# Altium schematic symbol library WE-KI.SchLib: 314 symbols (part 4 of 6)
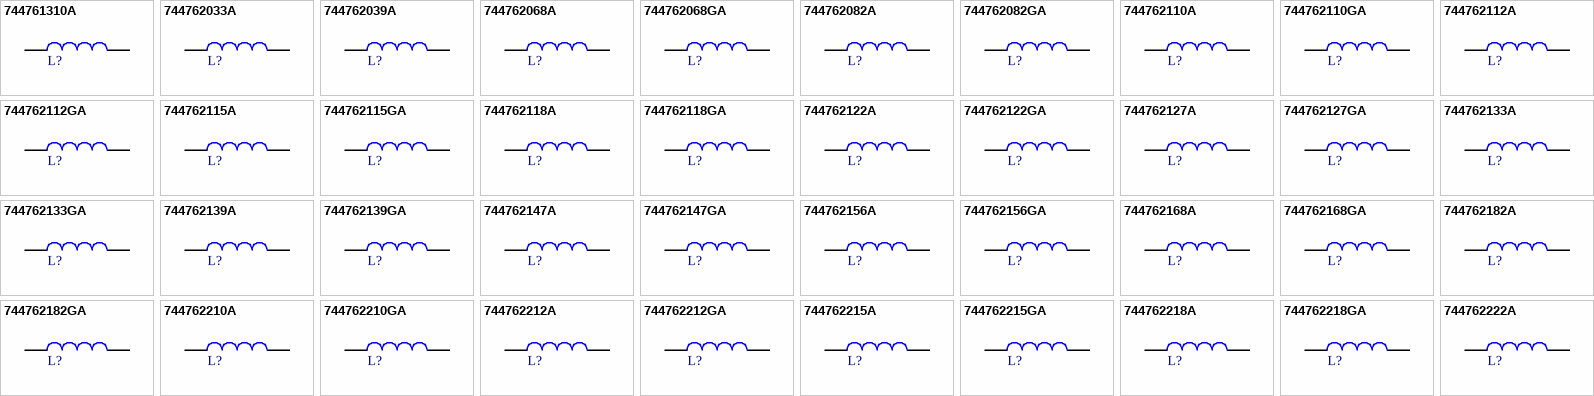
[diagram p10: symbols 744761310A to 744762222A]

## 744762110GA
designator L?, comment 10nH  (value not drawn)
WE-KI SMT Wire Wound Ceramic Inductor, size 1008, 10nH, 1A, 0.08Ω; Manufacturer Part Number: 744762110GA; Manufacturer: Wurth Elektronik; Case/Size Code: 1008; Inductance Tolerance: +/-2%; Q Factor: 50; Self Resonant Frequency: 4300MHz; Category: RF Inductors; Match Code: WE-KI; ComponentLink1Description: Website Link; ComponentLink1URL: https://www.we-online.com/redexpert/article/744762110GA?ad; ComponentLink2Description: Datasheet Link; ComponentLink2URL: https://www.we-online.com/redexpert/spec/744762110GA?ad; Mount: Surface Mount; Operating Temperature Max: 125°C; Operating Temperature Min: -40°C; Packaging: Tape and Reel; Length: 2.5mm; Width: 2mm; Height: 1.6mm; DC Resistance Max: 0.08Ω; Inductance: 10nH; Rated Current: 1A
footprint WE-KI_1008
simulation model 1008_744762110GA_10n
pins: 1, 2

## 744762112A
designator L?, comment 12nH  (value not drawn)
WE-KI SMT Wire Wound Ceramic Inductor, size 1008, 12nH, 1A, 0.08Ω; Manufacturer Part Number: 744762112A; Manufacturer: Wurth Elektronik; Case/Size Code: 1008; Inductance Tolerance: +/-5%; Q Factor: 60; Self Resonant Frequency: 3600MHz; Category: RF Inductors; Match Code: WE-KI; ComponentLink1Description: Website Link; ComponentLink1URL: https://www.we-online.com/redexpert/article/744762112A?ad; ComponentLink2Description: Datasheet Link; ComponentLink2URL: https://www.we-online.com/redexpert/spec/744762112A?ad; Mount: Surface Mount; Operating Temperature Max: 125°C; Operating Temperature Min: -40°C; Packaging: Tape and Reel; Length: 2.5mm; Width: 2mm; Height: 1.6mm; DC Resistance Max: 0.08Ω; Inductance: 12nH; Rated Current: 1A
footprint WE-KI_1008
simulation model 1008_744762112A_12n
pins: 1, 2

## 744762112GA
designator L?, comment 12nH  (value not drawn)
WE-KI SMT Wire Wound Ceramic Inductor, size 1008, 12nH, 1A, 0.08Ω; Manufacturer Part Number: 744762112GA; Manufacturer: Wurth Elektronik; Case/Size Code: 1008; Inductance Tolerance: +/-2%; Q Factor: 60; Self Resonant Frequency: 3600MHz; Category: RF Inductors; Match Code: WE-KI; ComponentLink1Description: Website Link; ComponentLink1URL: https://www.we-online.com/redexpert/article/744762112GA?ad; ComponentLink2Description: Datasheet Link; ComponentLink2URL: https://www.we-online.com/redexpert/spec/744762112GA?ad; Mount: Surface Mount; Operating Temperature Max: 125°C; Operating Temperature Min: -40°C; Packaging: Tape and Reel; Length: 2.5mm; Width: 2mm; Height: 1.6mm; DC Resistance Max: 0.08Ω; Inductance: 12nH; Rated Current: 1A
footprint WE-KI_1008
simulation model 1008_744762112GA_12n
pins: 1, 2

## 744762115A
designator L?, comment 15nH  (value not drawn)
WE-KI SMT Wire Wound Ceramic Inductor, size 1008, 15nH, 1A, 0.08Ω; Manufacturer Part Number: 744762115A; Manufacturer: Wurth Elektronik; Case/Size Code: 1008; Inductance Tolerance: +/-5%; Q Factor: 60; Self Resonant Frequency: 2700MHz; Category: RF Inductors; Match Code: WE-KI; ComponentLink1Description: Website Link; ComponentLink1URL: https://www.we-online.com/redexpert/article/744762115A?ad; ComponentLink2Description: Datasheet Link; ComponentLink2URL: https://www.we-online.com/redexpert/spec/744762115A?ad; Mount: Surface Mount; Operating Temperature Max: 125°C; Operating Temperature Min: -40°C; Packaging: Tape and Reel; Length: 2.5mm; Width: 2mm; Height: 1.6mm; DC Resistance Max: 0.08Ω; Inductance: 15nH; Rated Current: 1A
footprint WE-KI_1008
simulation model 1008_744762115A_15n
pins: 1, 2

## 744762115GA
designator L?, comment 15nH  (value not drawn)
WE-KI SMT Wire Wound Ceramic Inductor, size 1008, 15nH, 1A, 0.08Ω; Manufacturer Part Number: 744762115GA; Manufacturer: Wurth Elektronik; Case/Size Code: 1008; Inductance Tolerance: +/-2%; Q Factor: 60; Self Resonant Frequency: 2700MHz; Category: RF Inductors; Match Code: WE-KI; ComponentLink1Description: Website Link; ComponentLink1URL: https://www.we-online.com/redexpert/article/744762115GA?ad; ComponentLink2Description: Datasheet Link; ComponentLink2URL: https://www.we-online.com/redexpert/spec/744762115GA?ad; Mount: Surface Mount; Operating Temperature Max: 125°C; Operating Temperature Min: -40°C; Packaging: Tape and Reel; Length: 2.5mm; Width: 2mm; Height: 1.6mm; DC Resistance Max: 0.08Ω; Inductance: 15nH; Rated Current: 1A
footprint WE-KI_1008
simulation model 1008_744762115GA_15n
pins: 1, 2

## 744762118A
designator L?, comment 18nH  (value not drawn)
WE-KI SMT Wire Wound Ceramic Inductor, size 1008, 18nH, 1A, 0.1Ω; Manufacturer Part Number: 744762118A; Manufacturer: Wurth Elektronik; Case/Size Code: 1008; Inductance Tolerance: +/-5%; Q Factor: 60; Self Resonant Frequency: 2700MHz; Category: RF Inductors; Match Code: WE-KI; ComponentLink1Description: Website Link; ComponentLink1URL: https://www.we-online.com/redexpert/article/744762118A?ad; ComponentLink2Description: Datasheet Link; ComponentLink2URL: https://www.we-online.com/redexpert/spec/744762118A?ad; Mount: Surface Mount; Operating Temperature Max: 125°C; Operating Temperature Min: -40°C; Packaging: Tape and Reel; Length: 2.5mm; Width: 2mm; Height: 1.6mm; DC Resistance Max: 0.1Ω; Inductance: 18nH; Rated Current: 1A
footprint WE-KI_1008
simulation model 1008_744762118A_18n
pins: 1, 2

## 744762118GA
designator L?, comment 18nH  (value not drawn)
WE-KI SMT Wire Wound Ceramic Inductor, size 1008, 18nH, 1A, 0.1Ω; Manufacturer Part Number: 744762118GA; Manufacturer: Wurth Elektronik; Case/Size Code: 1008; Inductance Tolerance: +/-2%; Q Factor: 60; Self Resonant Frequency: 2700MHz; Category: RF Inductors; Match Code: WE-KI; ComponentLink1Description: Website Link; ComponentLink1URL: https://www.we-online.com/redexpert/article/744762118GA?ad; ComponentLink2Description: Datasheet Link; ComponentLink2URL: https://www.we-online.com/redexpert/spec/744762118GA?ad; Mount: Surface Mount; Operating Temperature Max: 125°C; Operating Temperature Min: -40°C; Packaging: Tape and Reel; Length: 2.5mm; Width: 2mm; Height: 1.6mm; DC Resistance Max: 0.1Ω; Inductance: 18nH; Rated Current: 1A
footprint WE-KI_1008
simulation model 1008_744762118GA_18n
pins: 1, 2

## 744762122A
designator L?, comment 22nH  (value not drawn)
WE-KI SMT Wire Wound Ceramic Inductor, size 1008, 22nH, 1A, 0.1Ω; Manufacturer Part Number: 744762122A; Manufacturer: Wurth Elektronik; Case/Size Code: 1008; Inductance Tolerance: +/-5%; Q Factor: 60; Self Resonant Frequency: 2500MHz; Category: RF Inductors; Match Code: WE-KI; ComponentLink1Description: Website Link; ComponentLink1URL: https://www.we-online.com/redexpert/article/744762122A?ad; ComponentLink2Description: Datasheet Link; ComponentLink2URL: https://www.we-online.com/redexpert/spec/744762122A?ad; Mount: Surface Mount; Operating Temperature Max: 125°C; Operating Temperature Min: -40°C; Packaging: Tape and Reel; Length: 2.5mm; Width: 2mm; Height: 1.6mm; DC Resistance Max: 0.1Ω; Inductance: 22nH; Rated Current: 1A
footprint WE-KI_1008
simulation model 1008_744762122A_22n
pins: 1, 2

## 744762122GA
designator L?, comment 22nH  (value not drawn)
WE-KI SMT Wire Wound Ceramic Inductor, size 1008, 22nH, 1A, 0.1Ω; Manufacturer Part Number: 744762122GA; Manufacturer: Wurth Elektronik; Case/Size Code: 1008; Inductance Tolerance: +/-2%; Q Factor: 60; Self Resonant Frequency: 2500MHz; Category: RF Inductors; Match Code: WE-KI; ComponentLink1Description: Website Link; ComponentLink1URL: https://www.we-online.com/redexpert/article/744762122GA?ad; ComponentLink2Description: Datasheet Link; ComponentLink2URL: https://www.we-online.com/redexpert/spec/744762122GA?ad; Mount: Surface Mount; Operating Temperature Max: 125°C; Operating Temperature Min: -40°C; Packaging: Tape and Reel; Length: 2.5mm; Width: 2mm; Height: 1.6mm; DC Resistance Max: 0.1Ω; Inductance: 22nH; Rated Current: 1A
footprint WE-KI_1008
simulation model 1008_744762122GA_22n
pins: 1, 2

## 744762127A
designator L?, comment 27nH  (value not drawn)
WE-KI SMT Wire Wound Ceramic Inductor, size 1008, 27nH, 1A, 0.1Ω; Manufacturer Part Number: 744762127A; Manufacturer: Wurth Elektronik; Case/Size Code: 1008; Inductance Tolerance: +/-5%; Q Factor: 60; Self Resonant Frequency: 1800MHz; Category: RF Inductors; Match Code: WE-KI; ComponentLink1Description: Website Link; ComponentLink1URL: https://www.we-online.com/redexpert/article/744762127A?ad; ComponentLink2Description: Datasheet Link; ComponentLink2URL: https://www.we-online.com/redexpert/spec/744762127A?ad; Mount: Surface Mount; Operating Temperature Max: 125°C; Operating Temperature Min: -40°C; Packaging: Tape and Reel; Length: 2.5mm; Width: 2mm; Height: 1.6mm; DC Resistance Max: 0.1Ω; Inductance: 27nH; Rated Current: 1A
footprint WE-KI_1008
simulation model 1008_744762127A_27n
pins: 1, 2

## 744762127GA
designator L?, comment 27nH  (value not drawn)
WE-KI SMT Wire Wound Ceramic Inductor, size 1008, 27nH, 1A, 0.1Ω; Manufacturer Part Number: 744762127GA; Manufacturer: Wurth Elektronik; Case/Size Code: 1008; Inductance Tolerance: +/-2%; Q Factor: 60; Self Resonant Frequency: 1800MHz; Category: RF Inductors; Match Code: WE-KI; ComponentLink1Description: Website Link; ComponentLink1URL: https://www.we-online.com/redexpert/article/744762127GA?ad; ComponentLink2Description: Datasheet Link; ComponentLink2URL: https://www.we-online.com/redexpert/spec/744762127GA?ad; Mount: Surface Mount; Operating Temperature Max: 125°C; Operating Temperature Min: -40°C; Packaging: Tape and Reel; Length: 2.5mm; Width: 2mm; Height: 1.6mm; DC Resistance Max: 0.1Ω; Inductance: 27nH; Rated Current: 1A
footprint WE-KI_1008
simulation model 1008_744762127GA_27n
pins: 1, 2

## 744762133A
designator L?, comment 33nH  (value not drawn)
WE-KI SMT Wire Wound Ceramic Inductor, size 1008, 33nH, 1A, 0.1Ω; Manufacturer Part Number: 744762133A; Manufacturer: Wurth Elektronik; Case/Size Code: 1008; Inductance Tolerance: +/-5%; Q Factor: 60; Self Resonant Frequency: 1700MHz; Category: RF Inductors; Match Code: WE-KI; ComponentLink1Description: Website Link; ComponentLink1URL: https://www.we-online.com/redexpert/article/744762133A?ad; ComponentLink2Description: Datasheet Link; ComponentLink2URL: https://www.we-online.com/redexpert/spec/744762133A?ad; Mount: Surface Mount; Operating Temperature Max: 125°C; Operating Temperature Min: -40°C; Packaging: Tape and Reel; Length: 2.5mm; Width: 2mm; Height: 1.6mm; DC Resistance Max: 0.1Ω; Inductance: 33nH; Rated Current: 1A
footprint WE-KI_1008
simulation model 1008_744762133A_33n
pins: 1, 2

## 744762133GA
designator L?, comment 33nH  (value not drawn)
WE-KI SMT Wire Wound Ceramic Inductor, size 1008, 33nH, 1A, 0.1Ω; Manufacturer Part Number: 744762133GA; Manufacturer: Wurth Elektronik; Case/Size Code: 1008; Inductance Tolerance: +/-2%; Q Factor: 60; Self Resonant Frequency: 1700MHz; Category: RF Inductors; Match Code: WE-KI; ComponentLink1Description: Website Link; ComponentLink1URL: https://www.we-online.com/redexpert/article/744762133GA?ad; ComponentLink2Description: Datasheet Link; ComponentLink2URL: https://www.we-online.com/redexpert/spec/744762133GA?ad; Mount: Surface Mount; Operating Temperature Max: 125°C; Operating Temperature Min: -40°C; Packaging: Tape and Reel; Length: 2.5mm; Width: 2mm; Height: 1.6mm; DC Resistance Max: 0.1Ω; Inductance: 33nH; Rated Current: 1A
footprint WE-KI_1008
simulation model 1008_744762133GA_33n
pins: 1, 2

## 744762139A
designator L?, comment 39nH  (value not drawn)
WE-KI SMT Wire Wound Ceramic Inductor, size 1008, 39nH, 1A, 0.1Ω; Manufacturer Part Number: 744762139A; Manufacturer: Wurth Elektronik; Case/Size Code: 1008; Inductance Tolerance: +/-5%; Q Factor: 60; Self Resonant Frequency: 1500MHz; Category: RF Inductors; Match Code: WE-KI; ComponentLink1Description: Website Link; ComponentLink1URL: https://www.we-online.com/redexpert/article/744762139A?ad; ComponentLink2Description: Datasheet Link; ComponentLink2URL: https://www.we-online.com/redexpert/spec/744762139A?ad; Mount: Surface Mount; Operating Temperature Max: 125°C; Operating Temperature Min: -40°C; Packaging: Tape and Reel; Length: 2.5mm; Width: 2mm; Height: 1.6mm; DC Resistance Max: 0.1Ω; Inductance: 39nH; Rated Current: 1A
footprint WE-KI_1008
simulation model 1008_744762139A_39n
pins: 1, 2

## 744762139GA
designator L?, comment 39nH  (value not drawn)
WE-KI SMT Wire Wound Ceramic Inductor, size 1008, 39nH, 1A, 0.1Ω; Manufacturer Part Number: 744762139GA; Manufacturer: Wurth Elektronik; Case/Size Code: 1008; Inductance Tolerance: +/-2%; Q Factor: 60; Self Resonant Frequency: 1500MHz; Category: RF Inductors; Match Code: WE-KI; ComponentLink1Description: Website Link; ComponentLink1URL: https://www.we-online.com/redexpert/article/744762139GA?ad; ComponentLink2Description: Datasheet Link; ComponentLink2URL: https://www.we-online.com/redexpert/spec/744762139GA?ad; Mount: Surface Mount; Operating Temperature Max: 125°C; Operating Temperature Min: -40°C; Packaging: Tape and Reel; Length: 2.5mm; Width: 2mm; Height: 1.6mm; DC Resistance Max: 0.1Ω; Inductance: 39nH; Rated Current: 1A
footprint WE-KI_1008
simulation model 1008_744762139GA_39n
pins: 1, 2

## 744762147A
designator L?, comment 47nH  (value not drawn)
WE-KI SMT Wire Wound Ceramic Inductor, size 1008, 47nH, 1A, 0.1Ω; Manufacturer Part Number: 744762147A; Manufacturer: Wurth Elektronik; Case/Size Code: 1008; Inductance Tolerance: +/-5%; Q Factor: 60; Self Resonant Frequency: 1500MHz; Category: RF Inductors; Match Code: WE-KI; ComponentLink1Description: Website Link; ComponentLink1URL: https://www.we-online.com/redexpert/article/744762147A?ad; ComponentLink2Description: Datasheet Link; ComponentLink2URL: https://www.we-online.com/redexpert/spec/744762147A?ad; Mount: Surface Mount; Operating Temperature Max: 125°C; Operating Temperature Min: -40°C; Packaging: Tape and Reel; Length: 2.5mm; Width: 2mm; Height: 1.6mm; DC Resistance Max: 0.1Ω; Inductance: 47nH; Rated Current: 1A
footprint WE-KI_1008
simulation model 1008_744762147A_47n
pins: 1, 2

## 744762147GA
designator L?, comment 47nH  (value not drawn)
WE-KI SMT Wire Wound Ceramic Inductor, size 1008, 47nH, 1A, 0.1Ω; Manufacturer Part Number: 744762147GA; Manufacturer: Wurth Elektronik; Case/Size Code: 1008; Inductance Tolerance: +/-2%; Q Factor: 60; Self Resonant Frequency: 1500MHz; Category: RF Inductors; Match Code: WE-KI; ComponentLink1Description: Website Link; ComponentLink1URL: https://www.we-online.com/redexpert/article/744762147GA?ad; ComponentLink2Description: Datasheet Link; ComponentLink2URL: https://www.we-online.com/redexpert/spec/744762147GA?ad; Mount: Surface Mount; Operating Temperature Max: 125°C; Operating Temperature Min: -40°C; Packaging: Tape and Reel; Length: 2.5mm; Width: 2mm; Height: 1.6mm; DC Resistance Max: 0.1Ω; Inductance: 47nH; Rated Current: 1A
footprint WE-KI_1008
simulation model 1008_744762147GA_47n
pins: 1, 2

## 744762156A
designator L?, comment 56nH  (value not drawn)
WE-KI SMT Wire Wound Ceramic Inductor, size 1008, 56nH, 1A, 0.12Ω; Manufacturer Part Number: 744762156A; Manufacturer: Wurth Elektronik; Case/Size Code: 1008; Inductance Tolerance: +/-5%; Q Factor: 60; Self Resonant Frequency: 1350MHz; Category: RF Inductors; Match Code: WE-KI; ComponentLink1Description: Website Link; ComponentLink1URL: https://www.we-online.com/redexpert/article/744762156A?ad; ComponentLink2Description: Datasheet Link; ComponentLink2URL: https://www.we-online.com/redexpert/spec/744762156A?ad; Mount: Surface Mount; Operating Temperature Max: 125°C; Operating Temperature Min: -40°C; Packaging: Tape and Reel; Length: 2.5mm; Width: 2mm; Height: 1.6mm; DC Resistance Max: 0.12Ω; Inductance: 56nH; Rated Current: 1A
footprint WE-KI_1008
simulation model 1008_744762156A_56n
pins: 1, 2

## 744762156GA
designator L?, comment 56nH  (value not drawn)
WE-KI SMT Wire Wound Ceramic Inductor, size 1008, 56nH, 1A, 0.12Ω; Manufacturer Part Number: 744762156GA; Manufacturer: Wurth Elektronik; Case/Size Code: 1008; Inductance Tolerance: +/-2%; Q Factor: 60; Self Resonant Frequency: 1350MHz; Category: RF Inductors; Match Code: WE-KI; ComponentLink1Description: Website Link; ComponentLink1URL: https://www.we-online.com/redexpert/article/744762156GA?ad; ComponentLink2Description: Datasheet Link; ComponentLink2URL: https://www.we-online.com/redexpert/spec/744762156GA?ad; Mount: Surface Mount; Operating Temperature Max: 125°C; Operating Temperature Min: -40°C; Packaging: Tape and Reel; Length: 2.5mm; Width: 2mm; Height: 1.6mm; DC Resistance Max: 0.12Ω; Inductance: 56nH; Rated Current: 1A
footprint WE-KI_1008
simulation model 1008_744762156GA_56n
pins: 1, 2

## 744762168A
designator L?, comment 68nH  (value not drawn)
WE-KI SMT Wire Wound Ceramic Inductor, size 1008, 68nH, 1A, 0.15Ω; Manufacturer Part Number: 744762168A; Manufacturer: Wurth Elektronik; Case/Size Code: 1008; Inductance Tolerance: +/-5%; Q Factor: 60; Self Resonant Frequency: 1300MHz; Category: RF Inductors; Match Code: WE-KI; ComponentLink1Description: Website Link; ComponentLink1URL: https://www.we-online.com/redexpert/article/744762168A?ad; ComponentLink2Description: Datasheet Link; ComponentLink2URL: https://www.we-online.com/redexpert/spec/744762168A?ad; Mount: Surface Mount; Operating Temperature Max: 125°C; Operating Temperature Min: -40°C; Packaging: Tape and Reel; Length: 2.5mm; Width: 2mm; Height: 1.6mm; DC Resistance Max: 0.15Ω; Inductance: 68nH; Rated Current: 1A
footprint WE-KI_1008
simulation model 1008_744762168A_68n
pins: 1, 2

## 744762168GA
designator L?, comment 68nH  (value not drawn)
WE-KI SMT Wire Wound Ceramic Inductor, size 1008, 68nH, 1A, 0.15Ω; Manufacturer Part Number: 744762168GA; Manufacturer: Wurth Elektronik; Case/Size Code: 1008; Inductance Tolerance: +/-2%; Q Factor: 60; Self Resonant Frequency: 1300MHz; Category: RF Inductors; Match Code: WE-KI; ComponentLink1Description: Website Link; ComponentLink1URL: https://www.we-online.com/redexpert/article/744762168GA?ad; ComponentLink2Description: Datasheet Link; ComponentLink2URL: https://www.we-online.com/redexpert/spec/744762168GA?ad; Mount: Surface Mount; Operating Temperature Max: 125°C; Operating Temperature Min: -40°C; Packaging: Tape and Reel; Length: 2.5mm; Width: 2mm; Height: 1.6mm; DC Resistance Max: 0.15Ω; Inductance: 68nH; Rated Current: 1A
footprint WE-KI_1008
simulation model 1008_744762168GA_68n
pins: 1, 2

## 744762182A
designator L?, comment 82nH  (value not drawn)
WE-KI SMT Wire Wound Ceramic Inductor, size 1008, 82nH, 1A, 0.18Ω; Manufacturer Part Number: 744762182A; Manufacturer: Wurth Elektronik; Case/Size Code: 1008; Inductance Tolerance: +/-5%; Q Factor: 60; Self Resonant Frequency: 1100MHz; Category: RF Inductors; Match Code: WE-KI; ComponentLink1Description: Website Link; ComponentLink1URL: https://www.we-online.com/redexpert/article/744762182A?ad; ComponentLink2Description: Datasheet Link; ComponentLink2URL: https://www.we-online.com/redexpert/spec/744762182A?ad; Mount: Surface Mount; Operating Temperature Max: 125°C; Operating Temperature Min: -40°C; Packaging: Tape and Reel; Length: 2.5mm; Width: 2mm; Height: 1.6mm; DC Resistance Max: 0.18Ω; Inductance: 82nH; Rated Current: 1A
footprint WE-KI_1008
simulation model 1008_744762182A_82n
pins: 1, 2

## 744762182GA
designator L?, comment 82nH  (value not drawn)
WE-KI SMT Wire Wound Ceramic Inductor, size 1008, 82nH, 1A, 0.18Ω; Manufacturer Part Number: 744762182GA; Manufacturer: Wurth Elektronik; Case/Size Code: 1008; Inductance Tolerance: +/-2%; Q Factor: 60; Self Resonant Frequency: 1100MHz; Category: RF Inductors; Match Code: WE-KI; ComponentLink1Description: Website Link; ComponentLink1URL: https://www.we-online.com/redexpert/article/744762182GA?ad; ComponentLink2Description: Datasheet Link; ComponentLink2URL: https://www.we-online.com/redexpert/spec/744762182GA?ad; Mount: Surface Mount; Operating Temperature Max: 125°C; Operating Temperature Min: -40°C; Packaging: Tape and Reel; Length: 2.5mm; Width: 2mm; Height: 1.6mm; DC Resistance Max: 0.18Ω; Inductance: 82nH; Rated Current: 1A
footprint WE-KI_1008
simulation model 1008_744762182GA_82n
pins: 1, 2

## 744762210A
designator L?, comment 100nH  (value not drawn)
WE-KI SMT Wire Wound Ceramic Inductor, size 1008, 100nH, 1A, 0.18Ω; Manufacturer Part Number: 744762210A; Manufacturer: Wurth Elektronik; Case/Size Code: 1008; Inductance Tolerance: +/-5%; Q Factor: 60; Self Resonant Frequency: 1100MHz; Category: RF Inductors; Match Code: WE-KI; ComponentLink1Description: Website Link; ComponentLink1URL: https://www.we-online.com/redexpert/article/744762210A?ad; ComponentLink2Description: Datasheet Link; ComponentLink2URL: https://www.we-online.com/redexpert/spec/744762210A?ad; Mount: Surface Mount; Operating Temperature Max: 125°C; Operating Temperature Min: -40°C; Packaging: Tape and Reel; Length: 2.5mm; Width: 2mm; Height: 1.6mm; DC Resistance Max: 0.18Ω; Inductance: 100nH; Rated Current: 1A
footprint WE-KI_1008
simulation model 1008_744762210A_100n
pins: 1, 2

## 744762210GA
designator L?, comment 100nH  (value not drawn)
WE-KI SMT Wire Wound Ceramic Inductor, size 1008, 100nH, 1A, 0.18Ω; Manufacturer Part Number: 744762210GA; Manufacturer: Wurth Elektronik; Case/Size Code: 1008; Inductance Tolerance: +/-2%; Q Factor: 60; Self Resonant Frequency: 1100MHz; Category: RF Inductors; Match Code: WE-KI; ComponentLink1Description: Website Link; ComponentLink1URL: https://www.we-online.com/redexpert/article/744762210GA?ad; ComponentLink2Description: Datasheet Link; ComponentLink2URL: https://www.we-online.com/redexpert/spec/744762210GA?ad; Mount: Surface Mount; Operating Temperature Max: 125°C; Operating Temperature Min: -40°C; Packaging: Tape and Reel; Length: 2.5mm; Width: 2mm; Height: 1.6mm; DC Resistance Max: 0.18Ω; Inductance: 100nH; Rated Current: 1A
footprint WE-KI_1008
simulation model 1008_744762210GA_100n
pins: 1, 2

## 744762212A
designator L?, comment 120nH  (value not drawn)
WE-KI SMT Wire Wound Ceramic Inductor, size 1008, 120nH, 0.8A, 0.2Ω; Manufacturer Part Number: 744762212A; Manufacturer: Wurth Elektronik; Case/Size Code: 1008; Inductance Tolerance: +/-5%; Q Factor: 45; Self Resonant Frequency: 950MHz; Category: RF Inductors; Match Code: WE-KI; ComponentLink1Description: Website Link; ComponentLink1URL: https://www.we-online.com/redexpert/article/744762212A?ad; ComponentLink2Description: Datasheet Link; ComponentLink2URL: https://www.we-online.com/redexpert/spec/744762212A?ad; Mount: Surface Mount; Operating Temperature Max: 125°C; Operating Temperature Min: -40°C; Packaging: Tape and Reel; Length: 2.5mm; Width: 2mm; Height: 1.6mm; DC Resistance Max: 0.2Ω; Inductance: 120nH; Rated Current: 0.8A
footprint WE-KI_1008
simulation model 1008_744762212A_120n
pins: 1, 2

## 744762212GA
designator L?, comment 120nH  (value not drawn)
WE-KI SMT Wire Wound Ceramic Inductor, size 1008, 120nH, 0.8A, 0.2Ω; Manufacturer Part Number: 744762212GA; Manufacturer: Wurth Elektronik; Case/Size Code: 1008; Inductance Tolerance: +/-2%; Q Factor: 45; Self Resonant Frequency: 950MHz; Category: RF Inductors; Match Code: WE-KI; ComponentLink1Description: Website Link; ComponentLink1URL: https://www.we-online.com/redexpert/article/744762212GA?ad; ComponentLink2Description: Datasheet Link; ComponentLink2URL: https://www.we-online.com/redexpert/spec/744762212GA?ad; Mount: Surface Mount; Operating Temperature Max: 125°C; Operating Temperature Min: -40°C; Packaging: Tape and Reel; Length: 2.5mm; Width: 2mm; Height: 1.6mm; DC Resistance Max: 0.2Ω; Inductance: 120nH; Rated Current: 0.8A
footprint WE-KI_1008
simulation model 1008_744762212GA_120n
pins: 1, 2

## 744762215A
designator L?, comment 150nH  (value not drawn)
WE-KI SMT Wire Wound Ceramic Inductor, size 1008, 150nH, 0.8A, 0.22Ω; Manufacturer Part Number: 744762215A; Manufacturer: Wurth Elektronik; Case/Size Code: 1008; Inductance Tolerance: +/-5%; Q Factor: 45; Self Resonant Frequency: 880MHz; Category: RF Inductors; Match Code: WE-KI; ComponentLink1Description: Website Link; ComponentLink1URL: https://www.we-online.com/redexpert/article/744762215A?ad; ComponentLink2Description: Datasheet Link; ComponentLink2URL: https://www.we-online.com/redexpert/spec/744762215A?ad; Mount: Surface Mount; Operating Temperature Max: 125°C; Operating Temperature Min: -40°C; Packaging: Tape and Reel; Length: 2.5mm; Width: 2mm; Height: 1.6mm; DC Resistance Max: 0.22Ω; Inductance: 150nH; Rated Current: 0.8A
footprint WE-KI_1008
simulation model 1008_744762215A_150n
pins: 1, 2

## 744762215GA
designator L?, comment 150nH  (value not drawn)
WE-KI SMT Wire Wound Ceramic Inductor, size 1008, 150nH, 0.8A, 0.22Ω; Manufacturer Part Number: 744762215GA; Manufacturer: Wurth Elektronik; Case/Size Code: 1008; Inductance Tolerance: +/-2%; Q Factor: 45; Self Resonant Frequency: 880MHz; Category: RF Inductors; Match Code: WE-KI; ComponentLink1Description: Website Link; ComponentLink1URL: https://www.we-online.com/redexpert/article/744762215GA?ad; ComponentLink2Description: Datasheet Link; ComponentLink2URL: https://www.we-online.com/redexpert/spec/744762215GA?ad; Mount: Surface Mount; Operating Temperature Max: 125°C; Operating Temperature Min: -40°C; Packaging: Tape and Reel; Length: 2.5mm; Width: 2mm; Height: 1.6mm; DC Resistance Max: 0.22Ω; Inductance: 150nH; Rated Current: 0.8A
footprint WE-KI_1008
simulation model 1008_744762215GA_150n
pins: 1, 2

## 744762218A
designator L?, comment 180nH  (value not drawn)
WE-KI SMT Wire Wound Ceramic Inductor, size 1008, 180nH, 0.8A, 0.33Ω; Manufacturer Part Number: 744762218A; Manufacturer: Wurth Elektronik; Case/Size Code: 1008; Inductance Tolerance: +/-5%; Q Factor: 45; Self Resonant Frequency: 800MHz; Category: RF Inductors; Match Code: WE-KI; ComponentLink1Description: Website Link; ComponentLink1URL: https://www.we-online.com/redexpert/article/744762218A?ad; ComponentLink2Description: Datasheet Link; ComponentLink2URL: https://www.we-online.com/redexpert/spec/744762218A?ad; Mount: Surface Mount; Operating Temperature Max: 125°C; Operating Temperature Min: -40°C; Packaging: Tape and Reel; Length: 2.5mm; Width: 2mm; Height: 1.6mm; DC Resistance Max: 0.33Ω; Inductance: 180nH; Rated Current: 0.8A
footprint WE-KI_1008
simulation model 1008_744762218A_180n
pins: 1, 2

## 744762218GA
designator L?, comment 180nH  (value not drawn)
WE-KI SMT Wire Wound Ceramic Inductor, size 1008, 180nH, 0.8A, 0.33Ω; Manufacturer Part Number: 744762218GA; Manufacturer: Wurth Elektronik; Case/Size Code: 1008; Inductance Tolerance: +/-2%; Q Factor: 45; Self Resonant Frequency: 800MHz; Category: RF Inductors; Match Code: WE-KI; ComponentLink1Description: Website Link; ComponentLink1URL: https://www.we-online.com/redexpert/article/744762218GA?ad; ComponentLink2Description: Datasheet Link; ComponentLink2URL: https://www.we-online.com/redexpert/spec/744762218GA?ad; Mount: Surface Mount; Operating Temperature Max: 125°C; Operating Temperature Min: -40°C; Packaging: Tape and Reel; Length: 2.5mm; Width: 2mm; Height: 1.6mm; DC Resistance Max: 0.33Ω; Inductance: 180nH; Rated Current: 0.8A
footprint WE-KI_1008
simulation model 1008_744762218GA_180n
pins: 1, 2

## 744762222A
designator L?, comment 220nH  (value not drawn)
WE-KI SMT Wire Wound Ceramic Inductor, size 1008, 220nH, 0.8A, 0.45Ω; Manufacturer Part Number: 744762222A; Manufacturer: Wurth Elektronik; Case/Size Code: 1008; Inductance Tolerance: +/-5%; Q Factor: 45; Self Resonant Frequency: 730MHz; Category: RF Inductors; Match Code: WE-KI; ComponentLink1Description: Website Link; ComponentLink1URL: https://www.we-online.com/redexpert/article/744762222A?ad; ComponentLink2Description: Datasheet Link; ComponentLink2URL: https://www.we-online.com/redexpert/spec/744762222A?ad; Mount: Surface Mount; Operating Temperature Max: 125°C; Operating Temperature Min: -40°C; Packaging: Tape and Reel; Length: 2.5mm; Width: 2mm; Height: 1.6mm; DC Resistance Max: 0.45Ω; Inductance: 220nH; Rated Current: 0.8A
footprint WE-KI_1008
simulation model 1008_744762222A_220n
pins: 1, 2

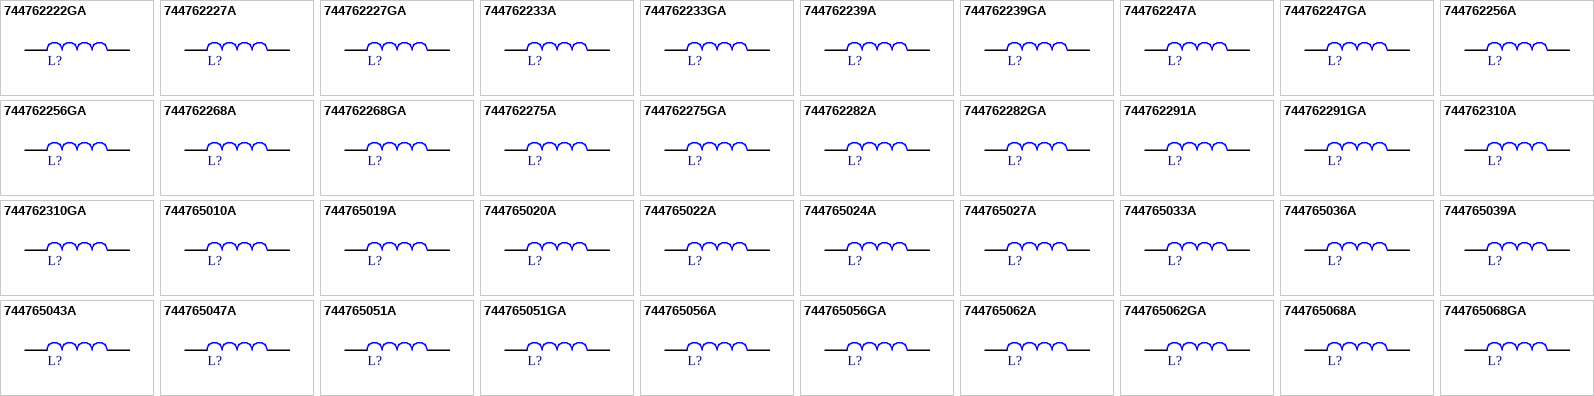
[diagram p5: symbols 744762222GA to 744765068GA]

## 744762222GA
designator L?, comment 220nH  (value not drawn)
WE-KI SMT Wire Wound Ceramic Inductor, size 1008, 220nH, 0.8A, 0.45Ω; Manufacturer Part Number: 744762222GA; Manufacturer: Wurth Elektronik; Case/Size Code: 1008; Inductance Tolerance: +/-2%; Q Factor: 45; Self Resonant Frequency: 730MHz; Category: RF Inductors; Match Code: WE-KI; ComponentLink1Description: Website Link; ComponentLink1URL: https://www.we-online.com/redexpert/article/744762222GA?ad; ComponentLink2Description: Datasheet Link; ComponentLink2URL: https://www.we-online.com/redexpert/spec/744762222GA?ad; Mount: Surface Mount; Operating Temperature Max: 125°C; Operating Temperature Min: -40°C; Packaging: Tape and Reel; Length: 2.5mm; Width: 2mm; Height: 1.6mm; DC Resistance Max: 0.45Ω; Inductance: 220nH; Rated Current: 0.8A
footprint WE-KI_1008
simulation model 1008_744762222GA_220n
pins: 1, 2

## 744762227A
designator L?, comment 270nH  (value not drawn)
WE-KI SMT Wire Wound Ceramic Inductor, size 1008, 270nH, 0.6A, 0.75Ω; Manufacturer Part Number: 744762227A; Manufacturer: Wurth Elektronik; Case/Size Code: 1008; Inductance Tolerance: +/-5%; Q Factor: 45; Self Resonant Frequency: 650MHz; Category: RF Inductors; Match Code: WE-KI; ComponentLink1Description: Website Link; ComponentLink1URL: https://www.we-online.com/redexpert/article/744762227A?ad; ComponentLink2Description: Datasheet Link; ComponentLink2URL: https://www.we-online.com/redexpert/spec/744762227A?ad; Mount: Surface Mount; Operating Temperature Max: 125°C; Operating Temperature Min: -40°C; Packaging: Tape and Reel; Length: 2.5mm; Width: 2mm; Height: 1.6mm; DC Resistance Max: 0.75Ω; Inductance: 270nH; Rated Current: 0.6A
footprint WE-KI_1008
simulation model 1008_744762227A_270n
pins: 1, 2

## 744762227GA
designator L?, comment 270nH  (value not drawn)
WE-KI SMT Wire Wound Ceramic Inductor, size 1008, 270nH, 0.6A, 0.75Ω; Manufacturer Part Number: 744762227GA; Manufacturer: Wurth Elektronik; Case/Size Code: 1008; Inductance Tolerance: +/-2%; Q Factor: 45; Self Resonant Frequency: 650MHz; Category: RF Inductors; Match Code: WE-KI; ComponentLink1Description: Website Link; ComponentLink1URL: https://www.we-online.com/redexpert/article/744762227GA?ad; ComponentLink2Description: Datasheet Link; ComponentLink2URL: https://www.we-online.com/redexpert/spec/744762227GA?ad; Mount: Surface Mount; Operating Temperature Max: 125°C; Operating Temperature Min: -40°C; Packaging: Tape and Reel; Length: 2.5mm; Width: 2mm; Height: 1.6mm; DC Resistance Max: 0.75Ω; Inductance: 270nH; Rated Current: 0.6A
footprint WE-KI_1008
simulation model 1008_744762227GA_270n
pins: 1, 2

## 744762233A
designator L?, comment 330nH  (value not drawn)
WE-KI SMT Wire Wound Ceramic Inductor, size 1008, 330nH, 0.5A, 0.9Ω; Manufacturer Part Number: 744762233A; Manufacturer: Wurth Elektronik; Case/Size Code: 1008; Inductance Tolerance: +/-5%; Q Factor: 45; Self Resonant Frequency: 570MHz; Category: RF Inductors; Match Code: WE-KI; ComponentLink1Description: Website Link; ComponentLink1URL: https://www.we-online.com/redexpert/article/744762233A?ad; ComponentLink2Description: Datasheet Link; ComponentLink2URL: https://www.we-online.com/redexpert/spec/744762233A?ad; Mount: Surface Mount; Operating Temperature Max: 125°C; Operating Temperature Min: -40°C; Packaging: Tape and Reel; Length: 2.5mm; Width: 2mm; Height: 1.6mm; DC Resistance Max: 0.9Ω; Inductance: 330nH; Rated Current: 0.5A
footprint WE-KI_1008
simulation model 1008_744762233A_330n
pins: 1, 2

## 744762233GA
designator L?, comment 330nH  (value not drawn)
WE-KI SMT Wire Wound Ceramic Inductor, size 1008, 330nH, 0.5A, 0.9Ω; Manufacturer Part Number: 744762233GA; Manufacturer: Wurth Elektronik; Case/Size Code: 1008; Inductance Tolerance: +/-2%; Q Factor: 45; Self Resonant Frequency: 570MHz; Category: RF Inductors; Match Code: WE-KI; ComponentLink1Description: Website Link; ComponentLink1URL: https://www.we-online.com/redexpert/article/744762233GA?ad; ComponentLink2Description: Datasheet Link; ComponentLink2URL: https://www.we-online.com/redexpert/spec/744762233GA?ad; Mount: Surface Mount; Operating Temperature Max: 125°C; Operating Temperature Min: -40°C; Packaging: Tape and Reel; Length: 2.5mm; Width: 2mm; Height: 1.6mm; DC Resistance Max: 0.9Ω; Inductance: 330nH; Rated Current: 0.5A
footprint WE-KI_1008
simulation model 1008_744762233GA_330n
pins: 1, 2

## 744762239A
designator L?, comment 390nH  (value not drawn)
WE-KI SMT Wire Wound Ceramic Inductor, size 1008, 390nH, 0.47A, 1.06Ω; Manufacturer Part Number: 744762239A; Manufacturer: Wurth Elektronik; Case/Size Code: 1008; Inductance Tolerance: +/-5%; Q Factor: 45; Self Resonant Frequency: 530MHz; Category: RF Inductors; Match Code: WE-KI; ComponentLink1Description: Website Link; ComponentLink1URL: https://www.we-online.com/redexpert/article/744762239A?ad; ComponentLink2Description: Datasheet Link; ComponentLink2URL: https://www.we-online.com/redexpert/spec/744762239A?ad; Mount: Surface Mount; Operating Temperature Max: 125°C; Operating Temperature Min: -40°C; Packaging: Tape and Reel; Length: 2.5mm; Width: 2mm; Height: 1.6mm; DC Resistance Max: 1.06Ω; Inductance: 390nH; Rated Current: 0.47A
footprint WE-KI_1008
simulation model 1008_744762239A_390n
pins: 1, 2

## 744762239GA
designator L?, comment 390nH  (value not drawn)
WE-KI SMT Wire Wound Ceramic Inductor, size 1008, 390nH, 0.47A, 1.06Ω; Manufacturer Part Number: 744762239GA; Manufacturer: Wurth Elektronik; Case/Size Code: 1008; Inductance Tolerance: +/-2%; Q Factor: 45; Self Resonant Frequency: 530MHz; Category: RF Inductors; Match Code: WE-KI; ComponentLink1Description: Website Link; ComponentLink1URL: https://www.we-online.com/redexpert/article/744762239GA?ad; ComponentLink2Description: Datasheet Link; ComponentLink2URL: https://www.we-online.com/redexpert/spec/744762239GA?ad; Mount: Surface Mount; Operating Temperature Max: 125°C; Operating Temperature Min: -40°C; Packaging: Tape and Reel; Length: 2.5mm; Width: 2mm; Height: 1.6mm; DC Resistance Max: 1.06Ω; Inductance: 390nH; Rated Current: 0.47A
footprint WE-KI_1008
simulation model 1008_744762239GA_390n
pins: 1, 2

## 744762247A
designator L?, comment 470nH  (value not drawn)
WE-KI SMT Wire Wound Ceramic Inductor, size 1008, 470nH, 0.42A, 1.17Ω; Manufacturer Part Number: 744762247A; Manufacturer: Wurth Elektronik; Case/Size Code: 1008; Inductance Tolerance: +/-5%; Q Factor: 45; Self Resonant Frequency: 480MHz; Category: RF Inductors; Match Code: WE-KI; ComponentLink1Description: Website Link; ComponentLink1URL: https://www.we-online.com/redexpert/article/744762247A?ad; ComponentLink2Description: Datasheet Link; ComponentLink2URL: https://www.we-online.com/redexpert/spec/744762247A?ad; Mount: Surface Mount; Operating Temperature Max: 125°C; Operating Temperature Min: -40°C; Packaging: Tape and Reel; Length: 2.5mm; Width: 2mm; Height: 1.6mm; DC Resistance Max: 1.17Ω; Inductance: 470nH; Rated Current: 0.42A
footprint WE-KI_1008
simulation model 1008_744762247A_470n
pins: 1, 2

## 744762247GA
designator L?, comment 470nH  (value not drawn)
WE-KI SMT Wire Wound Ceramic Inductor, size 1008, 470nH, 0.42A, 1.17Ω; Manufacturer Part Number: 744762247GA; Manufacturer: Wurth Elektronik; Case/Size Code: 1008; Inductance Tolerance: +/-2%; Q Factor: 45; Self Resonant Frequency: 480MHz; Category: RF Inductors; Match Code: WE-KI; ComponentLink1Description: Website Link; ComponentLink1URL: https://www.we-online.com/redexpert/article/744762247GA?ad; ComponentLink2Description: Datasheet Link; ComponentLink2URL: https://www.we-online.com/redexpert/spec/744762247GA?ad; Mount: Surface Mount; Operating Temperature Max: 125°C; Operating Temperature Min: -40°C; Packaging: Tape and Reel; Length: 2.5mm; Width: 2mm; Height: 1.6mm; DC Resistance Max: 1.17Ω; Inductance: 470nH; Rated Current: 0.42A
footprint WE-KI_1008
simulation model 1008_744762247GA_470n
pins: 1, 2

## 744762256A
designator L?, comment 560nH  (value not drawn)
WE-KI SMT Wire Wound Ceramic Inductor, size 1008, 560nH, 0.31A, 1.5Ω; Manufacturer Part Number: 744762256A; Manufacturer: Wurth Elektronik; Case/Size Code: 1008; Inductance Tolerance: +/-5%; Q Factor: 45; Self Resonant Frequency: 430MHz; Category: RF Inductors; Match Code: WE-KI; ComponentLink1Description: Website Link; ComponentLink1URL: https://www.we-online.com/redexpert/article/744762256A?ad; ComponentLink2Description: Datasheet Link; ComponentLink2URL: https://www.we-online.com/redexpert/spec/744762256A?ad; Mount: Surface Mount; Operating Temperature Max: 125°C; Operating Temperature Min: -40°C; Packaging: Tape and Reel; Length: 2.5mm; Width: 2mm; Height: 1.6mm; DC Resistance Max: 1.5Ω; Inductance: 560nH; Rated Current: 0.31A
footprint WE-KI_1008
simulation model 1008_744762256A_560n
pins: 1, 2

## 744762256GA
designator L?, comment 560nH  (value not drawn)
WE-KI SMT Wire Wound Ceramic Inductor, size 1008, 560nH, 0.31A, 1.5Ω; Manufacturer Part Number: 744762256GA; Manufacturer: Wurth Elektronik; Case/Size Code: 1008; Inductance Tolerance: +/-2%; Q Factor: 45; Self Resonant Frequency: 430MHz; Category: RF Inductors; Match Code: WE-KI; ComponentLink1Description: Website Link; ComponentLink1URL: https://www.we-online.com/redexpert/article/744762256GA?ad; ComponentLink2Description: Datasheet Link; ComponentLink2URL: https://www.we-online.com/redexpert/spec/744762256GA?ad; Mount: Surface Mount; Operating Temperature Max: 125°C; Operating Temperature Min: -40°C; Packaging: Tape and Reel; Length: 2.5mm; Width: 2mm; Height: 1.6mm; DC Resistance Max: 1.5Ω; Inductance: 560nH; Rated Current: 0.31A
footprint WE-KI_1008
simulation model 1008_744762256GA_560n
pins: 1, 2

## 744762268A
designator L?, comment 680nH  (value not drawn)
WE-KI SMT Wire Wound Ceramic Inductor, size 1008, 680nH, 0.23A, 2.06Ω; Manufacturer Part Number: 744762268A; Manufacturer: Wurth Elektronik; Case/Size Code: 1008; Inductance Tolerance: +/-5%; Q Factor: 45; Self Resonant Frequency: 380MHz; Category: RF Inductors; Match Code: WE-KI; ComponentLink1Description: Website Link; ComponentLink1URL: https://www.we-online.com/redexpert/article/744762268A?ad; ComponentLink2Description: Datasheet Link; ComponentLink2URL: https://www.we-online.com/redexpert/spec/744762268A?ad; Mount: Surface Mount; Operating Temperature Max: 125°C; Operating Temperature Min: -40°C; Packaging: Tape and Reel; Length: 2.5mm; Width: 2mm; Height: 1.6mm; DC Resistance Max: 2.06Ω; Inductance: 680nH; Rated Current: 0.23A
footprint WE-KI_1008
simulation model 1008_744762268A_680n
pins: 1, 2

## 744762268GA
designator L?, comment 680nH  (value not drawn)
WE-KI SMT Wire Wound Ceramic Inductor, size 1008, 680nH, 0.23A, 2.06Ω; Manufacturer Part Number: 744762268GA; Manufacturer: Wurth Elektronik; Case/Size Code: 1008; Inductance Tolerance: +/-2%; Q Factor: 45; Self Resonant Frequency: 380MHz; Category: RF Inductors; Match Code: WE-KI; ComponentLink1Description: Website Link; ComponentLink1URL: https://www.we-online.com/redexpert/article/744762268GA?ad; ComponentLink2Description: Datasheet Link; ComponentLink2URL: https://www.we-online.com/redexpert/spec/744762268GA?ad; Mount: Surface Mount; Operating Temperature Max: 125°C; Operating Temperature Min: -40°C; Packaging: Tape and Reel; Length: 2.5mm; Width: 2mm; Height: 1.6mm; DC Resistance Max: 2.06Ω; Inductance: 680nH; Rated Current: 0.23A
footprint WE-KI_1008
simulation model 1008_744762268GA_680n
pins: 1, 2

## 744762275A
designator L?, comment 750nH  (value not drawn)
WE-KI SMT Wire Wound Ceramic Inductor, size 1008, 750nH, 0.2A, 2.2Ω; Manufacturer Part Number: 744762275A; Manufacturer: Wurth Elektronik; Case/Size Code: 1008; Inductance Tolerance: +/-5%; Q Factor: 45; Self Resonant Frequency: 360MHz; Category: RF Inductors; Match Code: WE-KI; ComponentLink1Description: Website Link; ComponentLink1URL: https://www.we-online.com/redexpert/article/744762275A?ad; ComponentLink2Description: Datasheet Link; ComponentLink2URL: https://www.we-online.com/redexpert/spec/744762275A?ad; Mount: Surface Mount; Operating Temperature Max: 125°C; Operating Temperature Min: -40°C; Packaging: Tape and Reel; Length: 2.5mm; Width: 2mm; Height: 1.6mm; DC Resistance Max: 2.2Ω; Inductance: 750nH; Rated Current: 0.2A
footprint WE-KI_1008
simulation model 1008_744762275A_750n
pins: 1, 2

## 744762275GA
designator L?, comment 750nH  (value not drawn)
WE-KI SMT Wire Wound Ceramic Inductor, size 1008, 750nH, 0.2A, 2.2Ω; Manufacturer Part Number: 744762275GA; Manufacturer: Wurth Elektronik; Case/Size Code: 1008; Inductance Tolerance: +/-2%; Q Factor: 45; Self Resonant Frequency: 360MHz; Category: RF Inductors; Match Code: WE-KI; ComponentLink1Description: Website Link; ComponentLink1URL: https://www.we-online.com/redexpert/article/744762275GA?ad; ComponentLink2Description: Datasheet Link; ComponentLink2URL: https://www.we-online.com/redexpert/spec/744762275GA?ad; Mount: Surface Mount; Operating Temperature Max: 125°C; Operating Temperature Min: -40°C; Packaging: Tape and Reel; Length: 2.5mm; Width: 2mm; Height: 1.6mm; DC Resistance Max: 2.2Ω; Inductance: 750nH; Rated Current: 0.2A
footprint WE-KI_1008
simulation model 1008_744762275GA_750n
pins: 1, 2

## 744762282A
designator L?, comment 820nH  (value not drawn)
WE-KI SMT Wire Wound Ceramic Inductor, size 1008, 820nH, 0.18A, 2.3Ω; Manufacturer Part Number: 744762282A; Manufacturer: Wurth Elektronik; Case/Size Code: 1008; Inductance Tolerance: +/-5%; Q Factor: 45; Self Resonant Frequency: 350MHz; Category: RF Inductors; Match Code: WE-KI; ComponentLink1Description: Website Link; ComponentLink1URL: https://www.we-online.com/redexpert/article/744762282A?ad; ComponentLink2Description: Datasheet Link; ComponentLink2URL: https://www.we-online.com/redexpert/spec/744762282A?ad; Mount: Surface Mount; Operating Temperature Max: 125°C; Operating Temperature Min: -40°C; Packaging: Tape and Reel; Length: 2.5mm; Width: 2mm; Height: 1.6mm; DC Resistance Max: 2.3Ω; Inductance: 820nH; Rated Current: 0.18A
footprint WE-KI_1008
simulation model 1008_744762282A_820n
pins: 1, 2

## 744762282GA
designator L?, comment 820nH  (value not drawn)
WE-KI SMT Wire Wound Ceramic Inductor, size 1008, 820nH, 0.18A, 2.3Ω; Manufacturer Part Number: 744762282GA; Manufacturer: Wurth Elektronik; Case/Size Code: 1008; Inductance Tolerance: +/-2%; Q Factor: 45; Self Resonant Frequency: 350MHz; Category: RF Inductors; Match Code: WE-KI; ComponentLink1Description: Website Link; ComponentLink1URL: https://www.we-online.com/redexpert/article/744762282GA?ad; ComponentLink2Description: Datasheet Link; ComponentLink2URL: https://www.we-online.com/redexpert/spec/744762282GA?ad; Mount: Surface Mount; Operating Temperature Max: 125°C; Operating Temperature Min: -40°C; Packaging: Tape and Reel; Length: 2.5mm; Width: 2mm; Height: 1.6mm; DC Resistance Max: 2.3Ω; Inductance: 820nH; Rated Current: 0.18A
footprint WE-KI_1008
simulation model 1008_744762282GA_820n
pins: 1, 2

## 744762291A
designator L?, comment 910nH  (value not drawn)
WE-KI SMT Wire Wound Ceramic Inductor, size 1008, 910nH, 0.15A, 3.18Ω; Manufacturer Part Number: 744762291A; Manufacturer: Wurth Elektronik; Case/Size Code: 1008; Inductance Tolerance: +/-5%; Q Factor: 45; Self Resonant Frequency: 330MHz; Category: RF Inductors; Match Code: WE-KI; ComponentLink1Description: Website Link; ComponentLink1URL: https://www.we-online.com/redexpert/article/744762291A?ad; ComponentLink2Description: Datasheet Link; ComponentLink2URL: https://www.we-online.com/redexpert/spec/744762291A?ad; Mount: Surface Mount; Operating Temperature Max: 125°C; Operating Temperature Min: -40°C; Packaging: Tape and Reel; Length: 2.5mm; Width: 2mm; Height: 1.6mm; DC Resistance Max: 3.18Ω; Inductance: 910nH; Rated Current: 0.15A
footprint WE-KI_1008
simulation model 1008_744762291A_910n
pins: 1, 2

## 744762291GA
designator L?, comment 910nH  (value not drawn)
WE-KI SMT Wire Wound Ceramic Inductor, size 1008, 910nH, 0.15A, 3.18Ω; Manufacturer Part Number: 744762291GA; Manufacturer: Wurth Elektronik; Case/Size Code: 1008; Inductance Tolerance: +/-2%; Q Factor: 45; Self Resonant Frequency: 330MHz; Category: RF Inductors; Match Code: WE-KI; ComponentLink1Description: Website Link; ComponentLink1URL: https://www.we-online.com/redexpert/article/744762291GA?ad; ComponentLink2Description: Datasheet Link; ComponentLink2URL: https://www.we-online.com/redexpert/spec/744762291GA?ad; Mount: Surface Mount; Operating Temperature Max: 125°C; Operating Temperature Min: -40°C; Packaging: Tape and Reel; Length: 2.5mm; Width: 2mm; Height: 1.6mm; DC Resistance Max: 3.18Ω; Inductance: 910nH; Rated Current: 0.15A
footprint WE-KI_1008
simulation model 1008_744762291GA_910n
pins: 1, 2

## 744762310A
designator L?, comment 1000nH  (value not drawn)
WE-KI SMT Wire Wound Ceramic Inductor, size 1008, 1000nH, 0.12A, 3.3Ω; Manufacturer Part Number: 744762310A; Manufacturer: Wurth Elektronik; Case/Size Code: 1008; Inductance Tolerance: +/-5%; Q Factor: 35; Self Resonant Frequency: 310MHz; Category: RF Inductors; Match Code: WE-KI; ComponentLink1Description: Website Link; ComponentLink1URL: https://www.we-online.com/redexpert/article/744762310A?ad; ComponentLink2Description: Datasheet Link; ComponentLink2URL: https://www.we-online.com/redexpert/spec/744762310A?ad; Mount: Surface Mount; Operating Temperature Max: 125°C; Operating Temperature Min: -40°C; Packaging: Tape and Reel; Length: 2.5mm; Width: 2mm; Height: 1.6mm; DC Resistance Max: 3.3Ω; Inductance: 1000nH; Rated Current: 0.12A
footprint WE-KI_1008
simulation model 1008_744762310A_1000n
pins: 1, 2

## 744762310GA
designator L?, comment 1000nH  (value not drawn)
WE-KI SMT Wire Wound Ceramic Inductor, size 1008, 1000nH, 0.12A, 3.3Ω; Manufacturer Part Number: 744762310GA; Manufacturer: Wurth Elektronik; Case/Size Code: 1008; Inductance Tolerance: +/-2%; Q Factor: 35; Self Resonant Frequency: 310MHz; Category: RF Inductors; Match Code: WE-KI; ComponentLink1Description: Website Link; ComponentLink1URL: https://www.we-online.com/redexpert/article/744762310GA?ad; ComponentLink2Description: Datasheet Link; ComponentLink2URL: https://www.we-online.com/redexpert/spec/744762310GA?ad; Mount: Surface Mount; Operating Temperature Max: 125°C; Operating Temperature Min: -40°C; Packaging: Tape and Reel; Length: 2.5mm; Width: 2mm; Height: 1.6mm; DC Resistance Max: 3.3Ω; Inductance: 1000nH; Rated Current: 0.12A
footprint WE-KI_1008
simulation model 1008_744762310GA_1000n
pins: 1, 2

## 744765010A
designator L?, comment 1nH  (value not drawn)
WE-KI SMT Wire Wound Ceramic Inductor, size 0402, 1nH, 1.36A, 0.045Ω; Manufacturer Part Number: 744765010A; Manufacturer: Wurth Elektronik; Case/Size Code: 0402; Inductance Tolerance: +/-0.2nH; Q Factor: 13; Self Resonant Frequency: 6000MHz; Category: RF Inductors; Match Code: WE-KI; ComponentLink1Description: Website Link; ComponentLink1URL: https://www.we-online.com/redexpert/article/744765010A?ad; ComponentLink2Description: Datasheet Link; ComponentLink2URL: https://www.we-online.com/redexpert/spec/744765010A?ad; Mount: Surface Mount; Operating Temperature Max: 125°C; Operating Temperature Min: -40°C; Packaging: Tape and Reel; Length: 1mm; Width: 0.55mm; Height: 0.5mm; DC Resistance Max: 0.045Ω; Inductance: 1nH; Rated Current: 1.36A
footprint WE-KI_0402
simulation model 0402_744765010A_1n
pins: 1, 2

## 744765019A
designator L?, comment 1.9nH  (value not drawn)
WE-KI SMT Wire Wound Ceramic Inductor, size 0402, 1.9nH, 1.04A, 0.07Ω; Manufacturer Part Number: 744765019A; Manufacturer: Wurth Elektronik; Case/Size Code: 0402; Inductance Tolerance: +/-0.2nH; Q Factor: 16; Self Resonant Frequency: 6000MHz; Category: RF Inductors; Match Code: WE-KI; ComponentLink1Description: Website Link; ComponentLink1URL: https://www.we-online.com/redexpert/article/744765019A?ad; ComponentLink2Description: Datasheet Link; ComponentLink2URL: https://www.we-online.com/redexpert/spec/744765019A?ad; Mount: Surface Mount; Operating Temperature Max: 125°C; Operating Temperature Min: -40°C; Packaging: Tape and Reel; Length: 1mm; Width: 0.55mm; Height: 0.5mm; DC Resistance Max: 0.07Ω; Inductance: 1.9nH; Rated Current: 1.04A
footprint WE-KI_0402
simulation model 0402_744765019A_1.9n
pins: 1, 2

## 744765020A
designator L?, comment 2nH  (value not drawn)
WE-KI SMT Wire Wound Ceramic Inductor, size 0402, 2nH, 1.04A, 0.07Ω; Manufacturer Part Number: 744765020A; Manufacturer: Wurth Elektronik; Case/Size Code: 0402; Inductance Tolerance: +/-0.2nH; Q Factor: 16; Self Resonant Frequency: 6000MHz; Category: RF Inductors; Match Code: WE-KI; ComponentLink1Description: Website Link; ComponentLink1URL: https://www.we-online.com/redexpert/article/744765020A?ad; ComponentLink2Description: Datasheet Link; ComponentLink2URL: https://www.we-online.com/redexpert/spec/744765020A?ad; Mount: Surface Mount; Operating Temperature Max: 125°C; Operating Temperature Min: -40°C; Packaging: Tape and Reel; Length: 1mm; Width: 0.55mm; Height: 0.5mm; DC Resistance Max: 0.07Ω; Inductance: 2nH; Rated Current: 1.04A
footprint WE-KI_0402
simulation model 0402_744765020A_2n
pins: 1, 2

## 744765022A
designator L?, comment 2.2nH  (value not drawn)
WE-KI SMT Wire Wound Ceramic Inductor, size 0402, 2.2nH, 0.96A, 0.07Ω; Manufacturer Part Number: 744765022A; Manufacturer: Wurth Elektronik; Case/Size Code: 0402; Inductance Tolerance: +/-0.2nH; Q Factor: 18; Self Resonant Frequency: 6000MHz; Category: RF Inductors; Match Code: WE-KI; ComponentLink1Description: Website Link; ComponentLink1URL: https://www.we-online.com/redexpert/article/744765022A?ad; ComponentLink2Description: Datasheet Link; ComponentLink2URL: https://www.we-online.com/redexpert/spec/744765022A?ad; Mount: Surface Mount; Operating Temperature Max: 125°C; Operating Temperature Min: -40°C; Packaging: Tape and Reel; Length: 1mm; Width: 0.55mm; Height: 0.5mm; DC Resistance Max: 0.07Ω; Inductance: 2.2nH; Rated Current: 0.96A
footprint WE-KI_0402
simulation model 0402_744765022A_2.2n
pins: 1, 2